# Altium integrated library 43650-0400.IntLib: 1 symbol
Pins are listed as number, name and electrical type; pins without a type are passive.

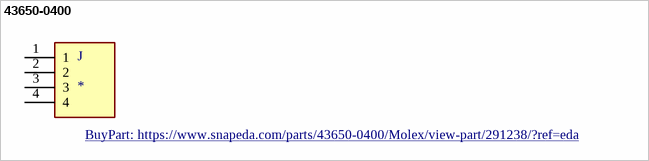
[diagram p0: symbol 43650-0400]

## 43650-0400
designator J
Connector Header Through Hole, Right Angle 4 position 0.118 (3.00mm); MP: 43650-0400; MF: Molex; Value: *; SnapEDA_Link: https://www.snapeda.com/parts/43650-0400/Molex/view-part/291238/?ref=snap; Price: None; Mouser-Purchase-URL: https://snapeda.com/shop?store=Mouser&id=291238; Package: None; Availability: Warning; BuyPart: https://www.snapeda.com/parts/43650-0400/Molex/view-part/291238/?ref=eda
footprint MOLEX_43650-0400
pins: 1, 2, 3, 4